# EAGLE library part DSPIC33EP256MU810-X_PF (library microchip2)
dsPIC33EP256MU810-X_PF TQFP 100; 14x14
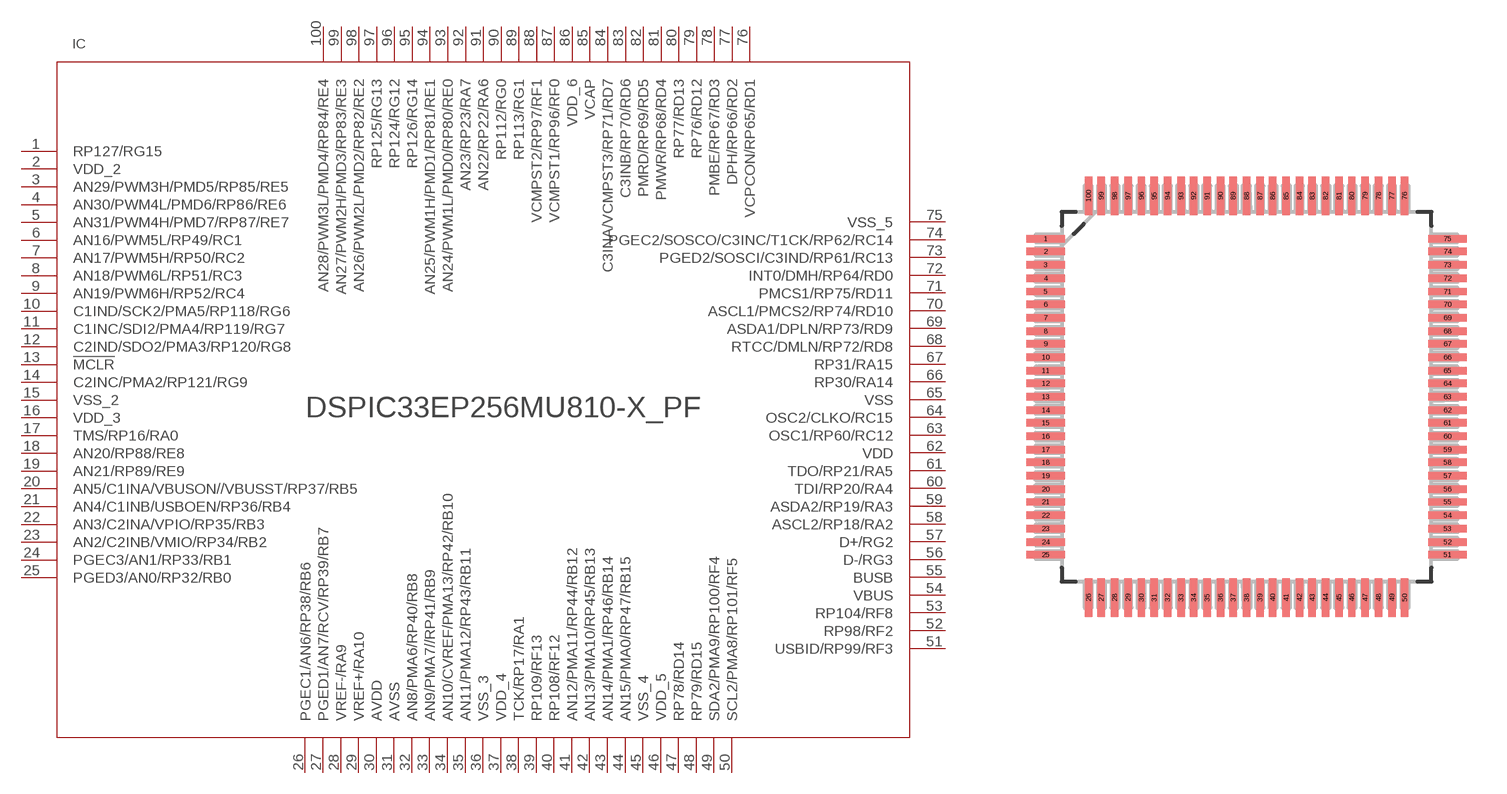
[diagram p149: symbol with the pads of TQFP100_14X14MC; footprint TQFP100_14X14MC]

Designator prefix IC

## DSPIC33EP256MU810-X_PF  [TQFP100_14X14MC]
1  RP127/RG15  pas
2  VDD_2  pwr
3  AN29/PWM3H/PMD5/RP85/RE5  pas
4  AN30/PWM4L/PMD6/RP86/RE6  pas
5  AN31/PWM4H/PMD7/RP87/RE7  pas
6  AN16/PWM5L/RP49/RC1  pas
7  AN17/PWM5H/RP50/RC2  pas
8  AN18/PWM6L/RP51/RC3  pas
9  AN19/PWM6H/RP52/RC4  pas
10  C1IND/SCK2/PMA5/RP118/RG6  pas
11  C1INC/SDI2/PMA4/RP119/RG7  pas
12  C2IND/SDO2/PMA3/RP120/RG8  pas
13  !MCLR  in
14  C2INC/PMA2/RP121/RG9  pas
15  VSS_2  pwr
16  VDD_3  pwr
17  TMS/RP16/RA0  pas
18  AN20/RP88/RE8  pas
19  AN21/RP89/RE9  pas
20  AN5/C1INA/VBUSON//VBUSST/RP37/RB5  pas
21  AN4/C1INB/USBOEN/RP36/RB4  pas
22  AN3/C2INA/VPIO/RP35/RB3  pas
23  AN2/C2INB/VMIO/RP34/RB2  pas
24  PGEC3/AN1/RP33/RB1  pas
25  PGED3/AN0/RP32/RB0  pas
26  PGEC1/AN6/RP38/RB6  pas
27  PGED1/AN7/RCV/RP39/RB7  pas
28  VREF-/RA9  pas
29  VREF+/RA10  pas
30  AVDD  pwr
31  AVSS  pwr
32  AN8/PMA6/RP40/RB8  pas
33  AN9/PMA7//RP41/RB9  pas
34  AN10/CVREF/PMA13/RP42/RB10  pas
35  AN11/PMA12/RP43/RB11  pas
36  VSS_3  pwr
37  VDD_4  pwr
38  TCK/RP17/RA1  pas
39  RP109/RF13  pas
40  RP108/RF12  pas
41  AN12/PMA11/RP44/RB12  pas
42  AN13/PMA10/RP45/RB13  pas
43  AN14/PMA1/RP46/RB14  pas
44  AN15/PMA0/RP47/RB15  pas
45  VSS_4  pwr
46  VDD_5  pwr
47  RP78/RD14  pas
48  RP79/RD15  pas
49  SDA2/PMA9/RP100/RF4  pas
50  SCL2/PMA8/RP101/RF5  pas
51  USBID/RP99/RF3  pas
52  RP98/RF2  pas
53  RP104/RF8  pas
54  VBUS  pwr
55  BUSB  pwr
56  D-/RG3  pas
57  D+/RG2  pas
58  ASCL2/RP18/RA2  pas
59  ASDA2/RP19/RA3  pas
60  TDI/RP20/RA4  pas
61  TDO/RP21/RA5  pas
62  VDD  pwr
63  OSC1/RP60/RC12  pas
64  OSC2/CLKO/RC15  pas
65  VSS  pwr
66  RP30/RA14  pas
67  RP31/RA15  pas
68  RTCC/DMLN/RP72/RD8  pas
69  ASDA1/DPLN/RP73/RD9  pas
70  ASCL1/PMCS2/RP74/RD10  pas
71  PMCS1/RP75/RD11  pas
72  INT0/DMH/RP64/RD0  pas
73  PGED2/SOSCI/C3IND/RP61/RC13  pas
74  PGEC2/SOSCO/C3INC/T1CK/RP62/RC14  pas
75  VSS_5  pwr
76  VCPCON/RP65/RD1  pas
77  DPH/RP66/RD2  pas
78  PMBE/RP67/RD3  pas
79  RP76/RD12  pas
80  RP77/RD13  pas
81  PMWR/RP68/RD4  pas
82  PMRD/RP69/RD5  pas
83  C3INB/RP70/RD6  pas
84  C3INA/VCMPST3/RP71/RD7  pas
85  VCAP  pwr
86  VDD_6  pwr
87  VCMPST1/RP96/RF0  pas
88  VCMPST2/RP97/RF1  pas
89  RP113/RG1  pas
90  RP112/RG0  pas
91  AN22/RP22/RA6  pas
92  AN23/RP23/RA7  pas
93  AN24/PWM1L/PMD0/RP80/RE0  pas
94  AN25/PWM1H/PMD1/RP81/RE1  pas
95  RP126/RG14  pas
96  RP124/RG12  pas
97  RP125/RG13  pas
98  AN26/PWM2L/PMD2/RP82/RE2  pas
99  AN27/PWM2H/PMD3/RP83/RE3  pas
100  AN28/PWM3L/PMD4/RP84/RE4  pas

## Footprint TQFP100_14X14MC (pad centres in mm)
TQFP100 14X14
smd 1.473 x 0.279: 1 -7.62,5.994; 2 -7.62,5.512; 3 -7.62,5.004; 4 -7.62,4.496; 5 -7.62,3.988; 6 -7.62,3.505; 7 -7.62,2.997; 8 -7.62,2.489; 9 -7.62,2.007; 10 -7.62,1.499; 11 -7.62,0.991; 12 -7.62,0.508; 13 -7.62,0; 14 -7.62,-0.508; 15 -7.62,-0.991; 16 -7.62,-1.499; 17 -7.62,-2.007; 18 -7.62,-2.489; 19 -7.62,-2.997; 20 -7.62,-3.505; 21 -7.62,-3.988; 22 -7.62,-4.496; 23 -7.62,-5.004; 24 -7.62,-5.512; 25 -7.62,-5.994; 51 7.62,-5.994; 52 7.62,-5.512; 53 7.62,-5.004; 54 7.62,-4.496; 55 7.62,-3.988; 56 7.62,-3.505; 57 7.62,-2.997; 58 7.62,-2.489; 59 7.62,-2.007; 60 7.62,-1.499; 61 7.62,-0.991; 62 7.62,-0.508; 63 7.62,0; 64 7.62,0.508; 65 7.62,0.991; 66 7.62,1.499; 67 7.62,2.007; 68 7.62,2.489; 69 7.62,2.997; 70 7.62,3.505; 71 7.62,3.988; 72 7.62,4.496; 73 7.62,5.004; 74 7.62,5.512; 75 7.62,5.994
smd 0.279 x 1.473: 26 -5.994,-7.62; 27 -5.512,-7.62; 28 -5.004,-7.62; 29 -4.496,-7.62; 30 -3.988,-7.62; 31 -3.505,-7.62; 32 -2.997,-7.62; 33 -2.489,-7.62; 34 -2.007,-7.62; 35 -1.499,-7.62; 36 -0.991,-7.62; 37 -0.508,-7.62; 38 0,-7.62; 39 0.508,-7.62; 40 0.991,-7.62; 41 1.499,-7.62; 42 2.007,-7.62; 43 2.489,-7.62; 44 2.997,-7.62; 45 3.505,-7.62; 46 3.988,-7.62; 47 4.496,-7.62; 48 5.004,-7.62; 49 5.512,-7.62; 50 5.994,-7.62; 76 5.994,7.62; 77 5.512,7.62; 78 5.004,7.62; 79 4.496,7.62; 80 3.988,7.62; 81 3.505,7.62; 82 2.997,7.62; 83 2.489,7.62; 84 2.007,7.62; 85 1.499,7.62; 86 0.991,7.62; 87 0.508,7.62; 88 0,7.62; 89 -0.508,7.62; 90 -0.991,7.62; 91 -1.499,7.62; 92 -2.007,7.62; 93 -2.489,7.62; 94 -2.997,7.62; 95 -3.505,7.62; 96 -3.988,7.62; 97 -4.496,7.62; 98 -5.004,7.62; 99 -5.512,7.62; 100 -5.994,7.62